# EAGLE library part JT-MB-CA (library jensen)
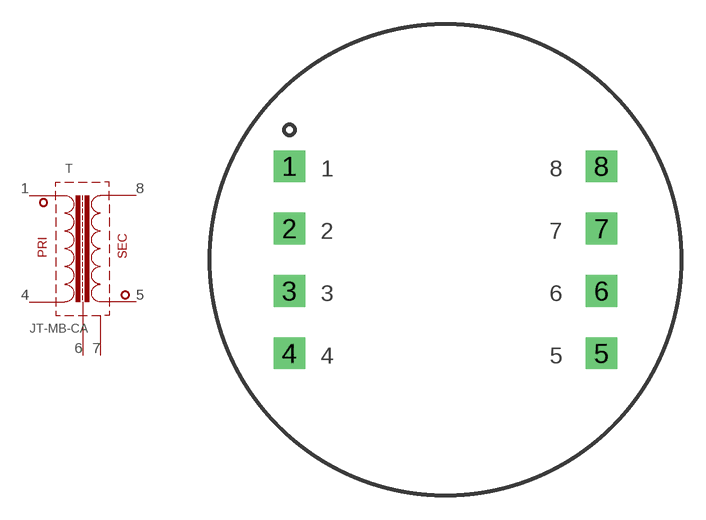
[diagram p0: symbol with the pads of PC-6; footprint PC-6]

Designator prefix T

## JT-MB-CA  [PC-6]
1  1  pas
4  4  pas
5  5  pas
6  6  pas
7  7  pas
8  8  pas

## Footprint PC-6 (pad centres in mm)
drill 1.016 pad 1.93 square: 1 -9.525,5.715; 2 -9.525,1.905; 3 -9.525,-1.905; 4 -9.525,-5.715; 5 9.525,-5.715; 6 9.525,-1.905; 7 9.525,1.905; 8 9.525,5.715